# Altium schematic symbol library Schlib1.SchLib: 77 symbols (part 2 of 2)
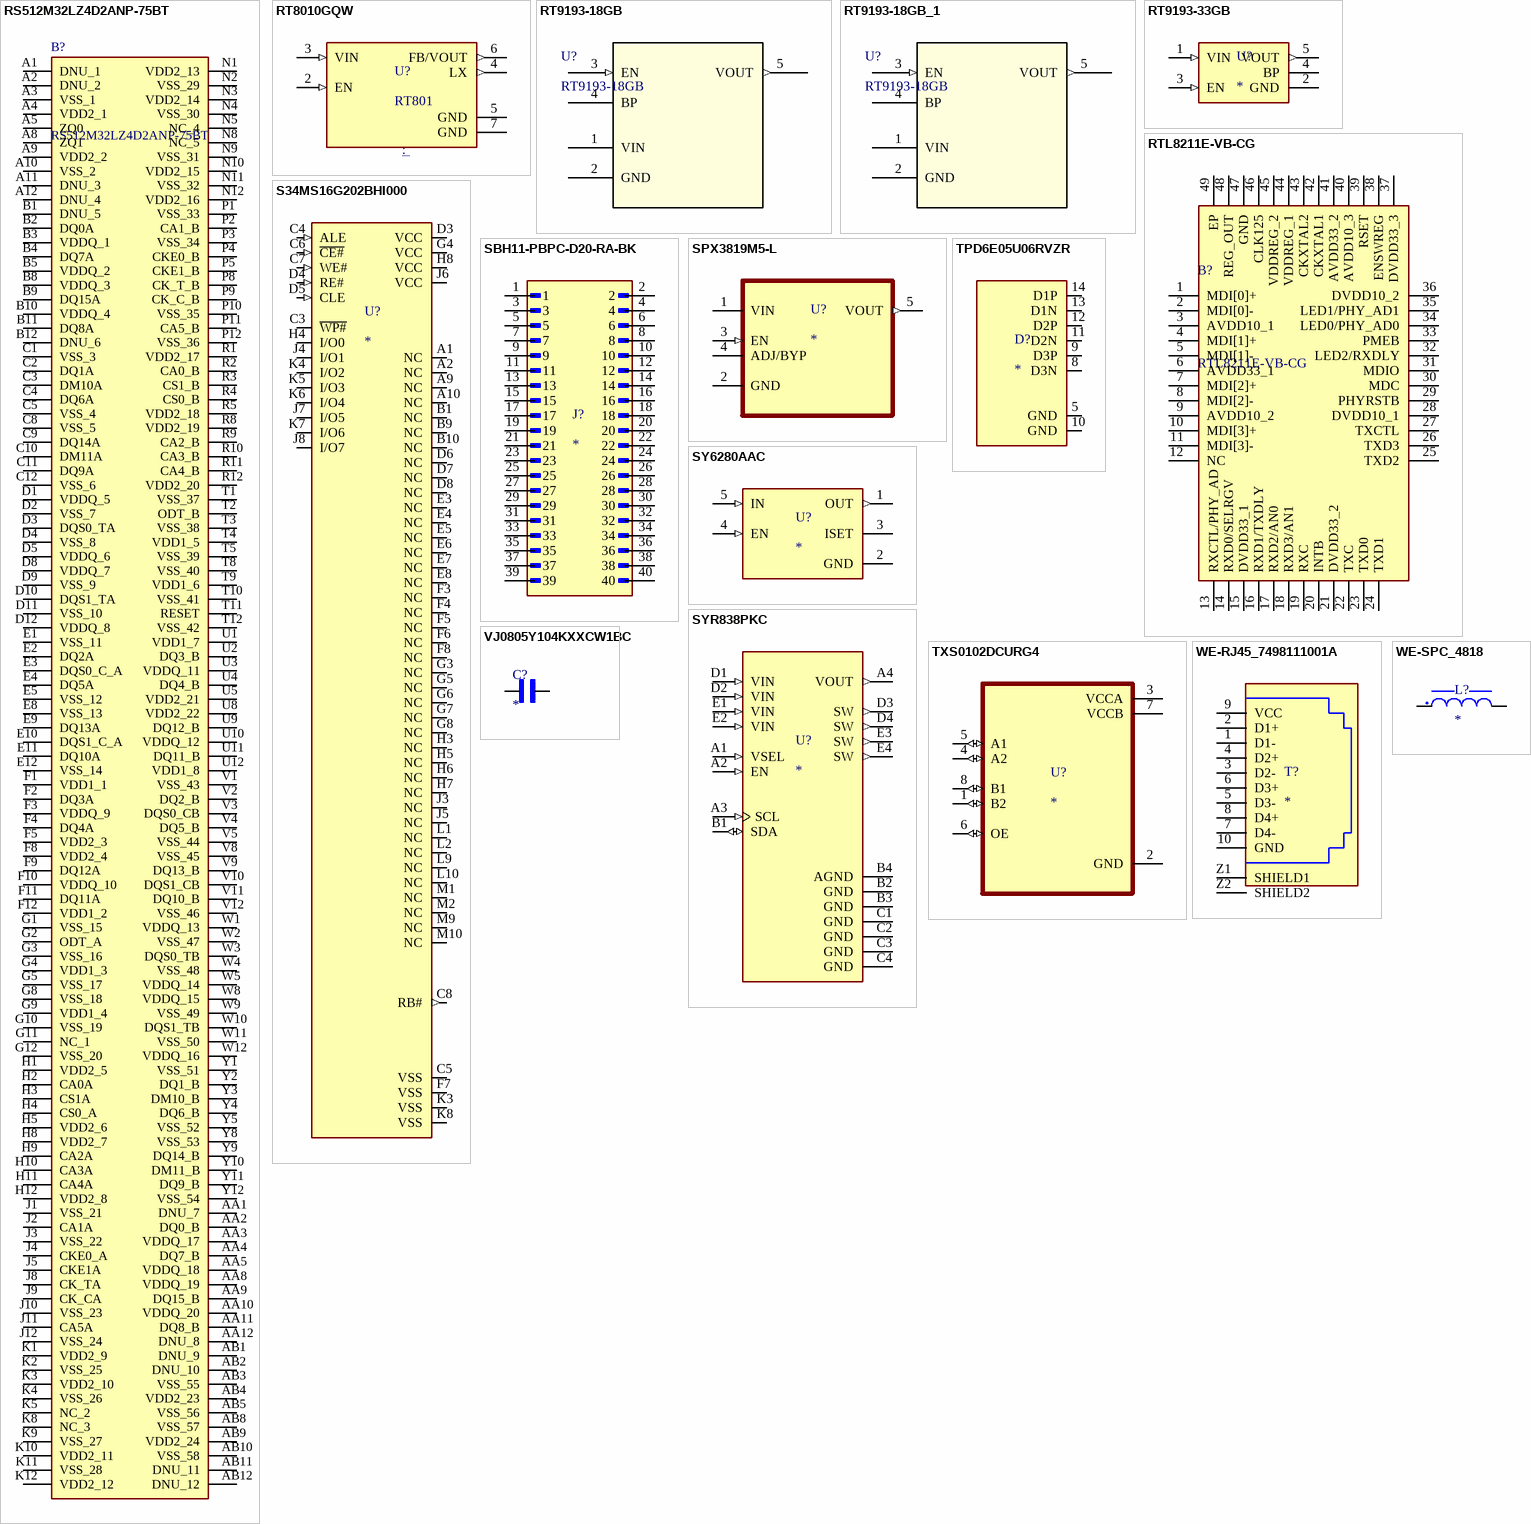
[diagram p6: symbols RS512M32LZ4D2ANP-75BT to WE-SPC_4818]

## RT9193-18GB_1
designator U?, comment RT9193-18GB
Description; Manufacturer_Name: Richtek Technology; Copyright: Copyright (C) 2026 Ultra Librarian. All rights reserved.; Manufacturer_Part_Number: RT9193-18GB; RefDes: RefDes; Type: Type
footprint SOT-23-5_RIT
pins: 1 VIN (power), 2 GND (power), 3 EN (in), 4 BP, 5 VOUT (out)

## RT9193-33GB
designator U?
Linear Voltage Regulator IC Positive Fixed 1 Output 300mA TSOT-23-5; MP: RT9193-33GB; MF: Richtek USA; SnapEDA_Link: https://www.snapeda.com/parts/RT9193-33GB/Richtek+USA+Inc./view-part/?ref=snap; Package: SOT-23-5 Richtek; Check_prices: https://www.snapeda.com/parts/RT9193-33GB/Richtek+USA+Inc./view-part/?ref=eda; Purchase-URL: https://pricing.snapeda.com/search/part/RT9193-33GB/?ref=eda; Digi-Key_Part_Number: 1028-1014-2-ND; Value: *
footprint SOT94P279X129-5N
pins: 1 VIN (in), 2 GND (power), 3 EN (in), 4 BP, 5 VOUT (out)

## RTL8211E-VB-CG
designator B?
h; Manufacturer_Name: Realtek; Geometry.Height: 1mm; Manufacturer_Part_Number: RTL8211E-VB-CG; Mouser Part Number: *; Mouser Price/Stock: *; Arrow Part Number: *; Arrow Price/Stock: *; Datasheet Link: http://download3.dvd-driver.cz/realtek/datasheets/pdf/rtl8211e(g)-vb(vl)-cg_datasheet_1.6.pdf
footprint QFN40P600X600X100-49N
pins: 1 MDI[0]+, 2 MDI[0]-, 3 AVDD10_1, 4 MDI[1]+, 5 MDI[1]-, 6 AVDD33_1, 7 MDI[2]+, 8 MDI[2]-, 9 AVDD10_2, 10 MDI[3]+, 11 MDI[3]-, 12 NC, 13 RXCTL/PHY_AD, 14 RXD0/SELRGV, 15 DVDD33_1, 16 RXD1/TXDLY, 17 RXD2/AN0, 18 RXD3/AN1, 19 RXC, 20 INTB, 21 DVDD33_2, 22 TXC, 23 TXD0, 24 TXD1, 25 TXD2, 26 TXD3, 27 TXCTL, 28 DVDD10_1, 29 PHYRSTB, 30 MDC, 31 MDIO, 32 LED2/RXDLY, 33 PMEB, 34 LED0/PHY_AD0, 35 LED1/PHY_AD1, 36 DVDD10_2, 37 DVDD33_3, 38 ENSWREG, 39 RSET, 40 AVDD10_3, 41 AVDD33_2, 42 CKXTAL1, 43 CKXTAL2, 44 VDDREG_1, 45 VDDREG_2, 46 CLK125, 47 GND, 48 REG_OUT, 49 EP

## S34MS16G202BHI000
designator U?
FLASH - NAND Memory IC 16Gb (4G x 4) Parallel 45 ns 63-BGA (11x9); MF: Cypress Semiconductor; MP: S34MS16G202BHI000; SnapEDA_Link: https://www.snapeda.com/parts/S34MS16G202BHI000/Infineon/view-part/?ref=snap; Package: BGA-63 Cypress Semiconductor; Value: *; Check_prices: https://www.snapeda.com/parts/S34MS16G202BHI000/Infineon/view-part/?ref=eda
footprint BGA63C80P12X10_1100X900X120
pins: A1 NC, A2 NC, A9 NC, A10 NC, B1 NC, B9 NC, B10 NC, C3 ~{WP#} (io), C4 ALE (in), C5 VSS (power), C6 ~{CE#} (in), C7 WE# (in), C8 RB# (out), D3 VCC (power), D4 RE# (in), D5 CLE (in), D6 NC, D7 NC, D8 NC, E3 NC, E4 NC, E5 NC, E6 NC, E7 NC, E8 NC, F3 NC, F4 NC, F5 NC, F6 NC, F7 VSS (power), F8 NC, G3 NC, G4 VCC (power), G5 NC, G6 NC, G7 NC, G8 NC, H3 NC, H4 I/O0 (io), H5 NC, H6 NC, H7 NC, H8 VCC (power), J3 NC, J4 I/O1 (io), J5 NC, J6 VCC (power), J7 I/O5 (io), J8 I/O7 (io), K3 VSS (power), K4 I/O2 (io), K5 I/O3 (io), K6 I/O4 (io), K7 I/O6 (io), K8 VSS (power), L1 NC, L2 NC, L9 NC, L10 NC, M1 NC, M2 NC, M9 NC, M10 NC

## SBH11-PBPC-D20-RA-BK
designator J?
Connector Header Through Hole, Right Angle 40 position 0.100 (2.54mm); MF: Sullins Connector; MP: SBH11-PBPC-D20-RA-BK; SnapEDA_Link: https://www.snapeda.com/parts/SBH11-PBPC-D20-RA-BK/Sullins+Connector+Solutions/view-part/?ref=snap; Package: None; Value: *; Check_prices: https://www.snapeda.com/parts/SBH11-PBPC-D20-RA-BK/Sullins+Connector+Solutions/view-part/?ref=eda
footprint SULLINS_SBH11-PBPC-D20-RA-BK
pins: 1, 2, 3, 4, 5, 6, 7, 8, 9, 10, 11, 12, 13, 14, 15, 16, 17, 18, 19, 20, 21, 22, 23, 24, 25, 26, 27, 28, 29, 30, 31, 32, 33, 34, 35, 36, 37, 38, 39, 40

## SPX3819M5-L
designator U?
Linear Voltage Regulator IC Positive Adjustable 1 Output 500mA SOT-23-5; MF: MaxLinear, Inc.; MP: SPX3819M5-L/TR; SnapEDA_Link: https://www.snapeda.com/parts/SPX3819M5-L/TR/MaxLinear/view-part/?ref=snap; Package: SOT-23-5 Exar; Value: *; Check_prices: https://www.snapeda.com/parts/SPX3819M5-L/TR/MaxLinear/view-part/?ref=eda
footprint SOT95P280X145-5N
pins: 1 VIN (power), 2 GND, 3 EN (in), 4 ADJ/BYP, 5 VOUT (out)

## SY6280AAC
designator U?
USB Power Distribution SW Single 5.5V 1A 5-Pin SOT-23; MF: Silergy; MP: SY6280AAC; SnapEDA_Link: https://www.snapeda.com/parts/SY6280AAC/Silergy/view-part/?ref=snap; Package: SOT-23-5 Silergy; Value: *; Check_prices: https://www.snapeda.com/parts/SY6280AAC/Silergy/view-part/?ref=eda
footprint SOT95P285X130-5N
pins: 1 OUT (out), 2 GND (power), 3 ISET, 4 EN (in), 5 IN (in)

## SYR838PKC
designator U?
MF: Silergy; MP: SYR838PKC; SnapEDA_Link: https://www.snapeda.com/parts/SYR838PKC/Silergy/view-part/?ref=snap; Package: None; Value: *; Check_prices: https://www.snapeda.com/parts/SYR838PKC/Silergy/view-part/?ref=eda
footprint BGA20N40P5X4_196X156X66N
pins: A1 VSEL (in), A2 EN (in), A3 SCL (in), A4 VOUT (out), B1 SDA (io), B2 GND (power), B3 GND (power), B4 AGND (power), C1 GND (power), C2 GND (power), C3 GND (power), C4 GND (power), D1 VIN (in), D2 VIN (in), D3 SW (out), D4 SW (out), E1 VIN (in), E2 VIN (in), E3 SW (out), E4 SW (out)

## TPD6E05U06RVZR
designator D?
6-Channel Ultra low capacitance IEC ESD protection diodes 14-USON -40 to 125; MP: TPD6E05U06RVZR; Price: None; Package: None; Value: *; Availability: Unavailable
footprint SON50P135X350X55-14N
pins: 5 GND (power), 8 D3N (io), 9 D3P (io), 10 GND (power), 11 D2N (io), 12 D2P (io), 13 D1N (io), 14 D1P (io)

## TXS0102DCURG4
designator U?
2-Bit Bidirectional Voltage-Level Shifter for Open-Drain and Push-Pull Application; MF: Texas Instruments; MP: TXS0102DCURG4; SnapEDA_Link: https://www.snapeda.com/parts/TXS0102DCURG4/Texas+Instruments/view-part/?ref=snap; Package: VSSOP-8 Texas Instruments; Value: *; Check_prices: https://www.snapeda.com/parts/TXS0102DCURG4/Texas+Instruments/view-part/?ref=eda
footprint SOP50P310X90-8N
pins: 1 B2 (io), 2 GND (power), 3 VCCA (power), 4 A2 (io), 5 A1 (io), 6 OE (io), 7 VCCB (power), 8 B1 (io)

## VJ0805Y104KXXCW1BC
designator C?
Capacitor: ceramic; MLCC; 100nF; 25V; X7R; Â±10%; SMD; 0805; MF: Vishay Vitramon; MP: VJ0805Y104KXXCW1BC; SnapEDA_Link: https://www.snapeda.com/parts/VJ0805Y104KXXCW1BC/Vishay/view-part/?ref=snap; Package: 0805-2 VISHAY; Value: *; Check_prices: https://www.snapeda.com/parts/VJ0805Y104KXXCW1BC/Vishay/view-part/?ref=eda
footprint CAPC2012X90N
pins: 1, 2

## WE-RJ45_7498111001A
designator T?
EMI Gaskets, Sheets, Absorbers & Shielding Integrated RJ45 Transformer WE-RJ45LAN; MF: WÃ¼rth Elektronik; MP: 7498111001A; SnapEDA_Link: https://www.snapeda.com/parts/7498111001A/W%25C3%25BCrth+Elektronik+Midcom/view-part/?ref=snap; Package: None; Value: *; Check_prices: https://www.snapeda.com/parts/7498111001A/W%25C3%25BCrth+Elektronik+Midcom/view-part/?ref=eda
footprint 7498111001A
pins: 1 D1-, 2 D1+, 3 D2-, 4 D2+, 5 D3-, 6 D3+, 7 D4-, 8 D4+, 9 VCC, 10 GND, Z1 SHIELD1, Z2 SHIELD2

## WE-SPC_4818
designator L?
10 ÂµH Shielded Drum Core, Wirewound Inductor 900 mA 248mOhm Max 1919 (4848 Metric); MF: WÃ¼rth Elektronik; MP: 74408941100; SnapEDA_Link: https://www.snapeda.com/parts/74408941100/W%25C3%25BCrth+Elektronik+Midcom/view-part/?ref=snap; Package: 1919 WÃ¼rth Elektronik; Value: *; Check_prices: https://www.snapeda.com/parts/74408941100/W%25C3%25BCrth+Elektronik+Midcom/view-part/?ref=eda
footprint WE-SPC_4818
pins: 1, 2